# Altium footprint library WateringSystem_lib.PcbLib: 38 footprints (part 1 of 3)
Each footprint in its own frame and in the unit in brackets; x right, y up, seen from the top. Pads: shape width x height; smd on the part's side, far side on the other; paste and mask are expansions set on the pad; w line width, h text height; cw(c..) or ccw(c..) is an arc to the next point about the centre after c.
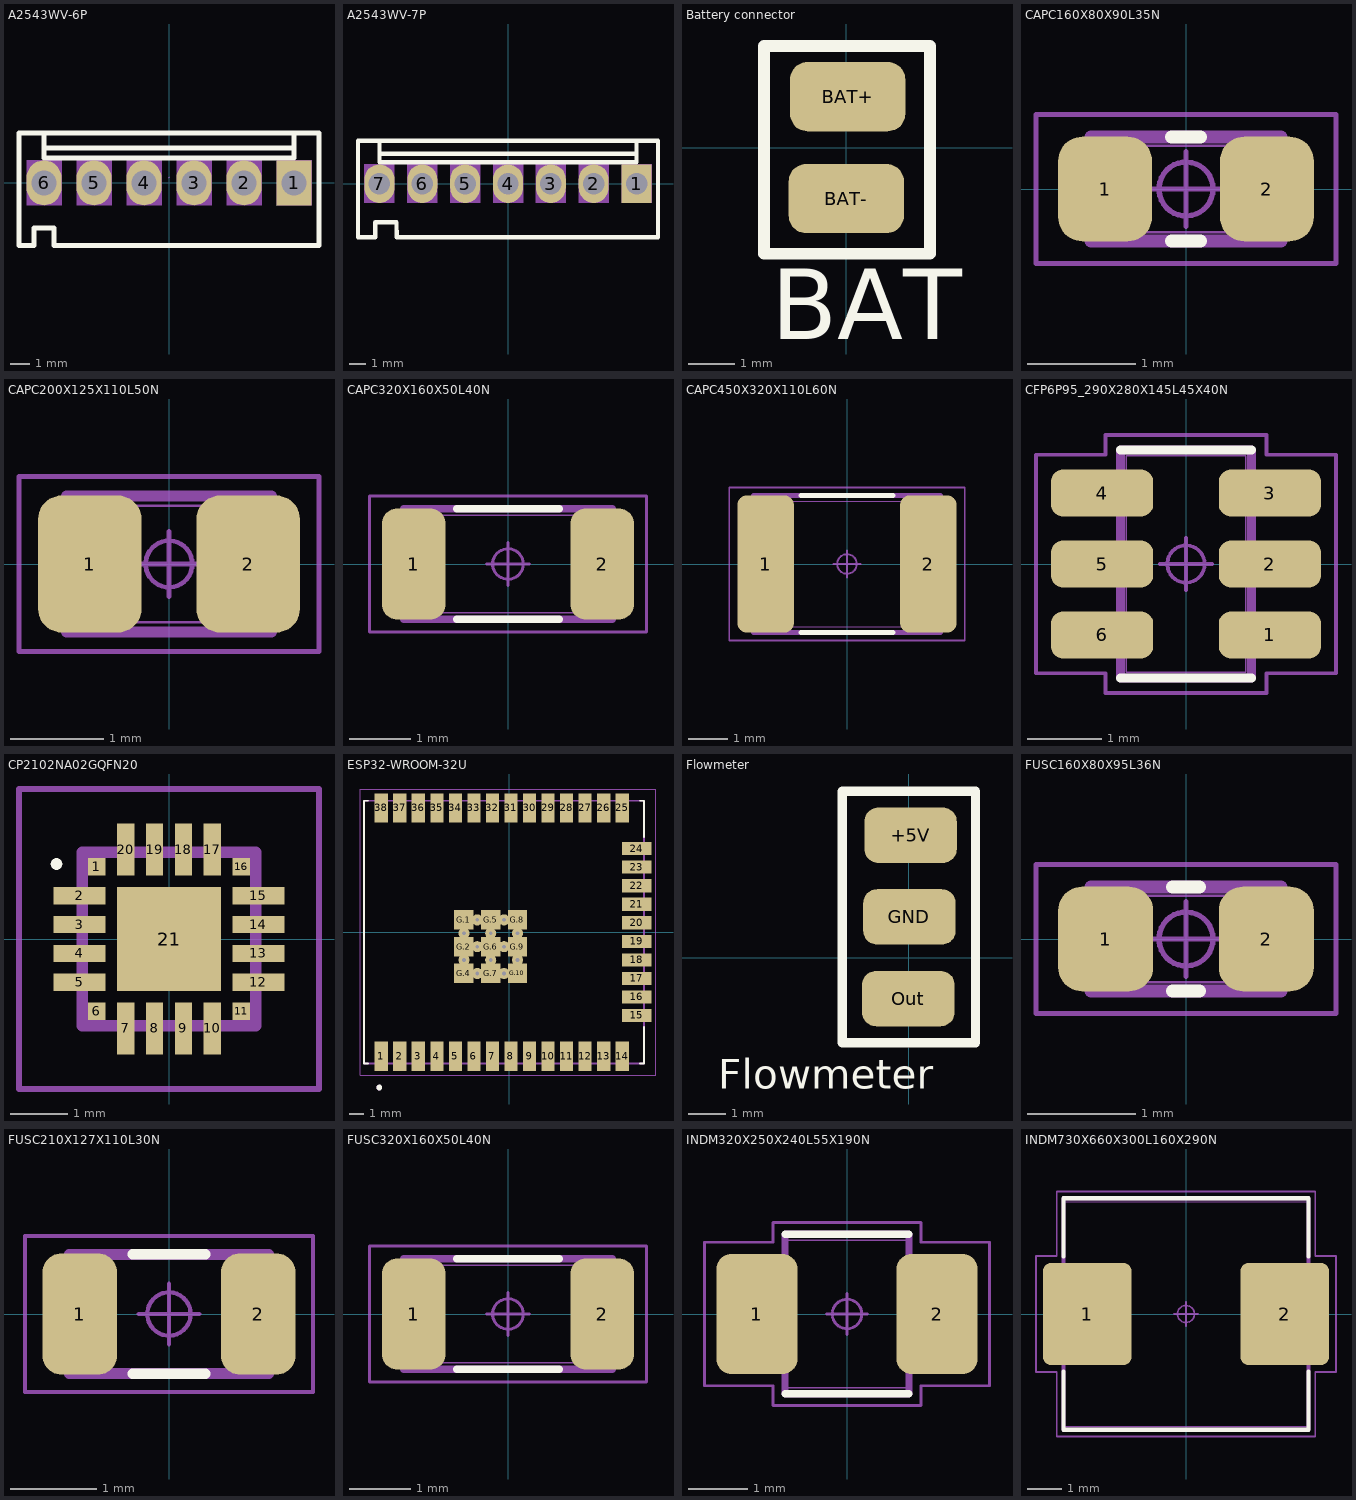
[diagram p0: the footprints below, top view; thin cyan lines are the x and y axes]

## A2543WV-6P [mil] "program port for ESP"
pads (6):
  rect 70x90 hole 50: 1(250,0)
  oval 70x90 hole 50: 2(150,0) 3(50,0) 4(-50,0) 5(-150,0) 6(-250,0)
Top Overlay:
  lines w10: -250,70 250,70 ; -250,100 -250,50 250,50 250,100 ; -300,-125 -270,-125 -270,-90 -230.1,-90 -230,-125 300,-125 300,100 -300,100 -300,-125
Mechanical 5:
  region: 215,45 285,45 285,-45 215,-45
  region: 115,45 185,45 185,-45 115,-45
  region: 15,45 85,45 85,-45 15,-45
  region: -85,45 -15,45 -15,-45 -85,-45
  region: -185,45 -115,45 -115,-45 -185,-45
  region: -285,45 -215,45 -215,-45 -285,-45
Mechanical 15:
  lines w0.1: -1,10.25 1,12.25
3D body "Header, Male, 2.54mm, 1x6.STEP": height 336.22, standoff -118.11, extent -300,-50 300,50

## A2543WV-7P [mil]
pads (7):
  rect 70x90 hole 50: 1(300,0)
  oval 70x90 hole 50: 2(200,0) 3(100,0) 4(0,0) 5(-100,0) 6(-200,0) 7(-300,0)
Top Overlay:
  lines w10: -300,70 300,70 ; -300,100 -300,50 300,50 300,100 ; -350,-125 -350,100 350,100 350,-125 -259.9,-125 -260,-90 -310,-90 -310,-125 -350,-125
Mechanical 5:
  region: -335,45 -265,45 -265,-45 -335,-45
  region: -235,45 -165,45 -165,-45 -235,-45
  region: -135,45 -65,45 -65,-45 -135,-45
  region: -35,45 35,45 35,-45 -35,-45
  region: 65,45 135,45 135,-45 65,-45
  region: 165,45 235,45 235,-45 165,-45
  region: 265,45 335,45 335,-45 265,-45
3D body "7x_Male_Pin_2.54_mm.STEP": height 326.23, standoff -110.78, extent -350,-44.49 350,50

## Battery connector [mm]
pads (2):
  rrect50% 2.5x1.5 smd: BAT+(0.03,1.107) BAT-(0,-1.1)
Top Overlay:
  lines w0.254: -1.785,-2.297 1.815,-2.297 1.815,2.204 -1.785,2.204 -1.785,-2.297
  text "BAT" at -1.631,-4.142 h1.52

## CAPC160X80X90L35N [mm] "Capacitor, Chip;  0603, 1.60 mm L X 0.80 mm W X 0.90 mm H body"
height 0.9
pads (2):
  rrect51% 0.87x0.97 smd: 1(-0.75,0) 2(0.75,0)
Top Overlay:
  lines w0.12: -0.135,-0.48 0.135,-0.48 ; -0.135,0.48 0.135,0.48
Mechanical 11:
  lines w0.12: -0.88,-0.48 0.88,-0.48 0.88,0.48 -0.88,0.48 -0.88,-0.48
Mechanical 12:
  lines w0.025: -0.8,-0.4 0.8,-0.4 ; -0.8,-0.4 -0.8,0.4 ; -0.8,-0.4 -0.8,0.4 ; -0.8,-0.4 -0.45,-0.4 -0.45,0.4 -0.8,0.4 ; -0.8,0.4 0.8,0.4 ; 0.8,-0.4 0.8,0.4 ; 0.8,-0.4 0.45,-0.4 0.45,0.4 0.8,0.4 ; 0.8,-0.4 0.8,0.4
Mechanical 15:
  circle w0.05: c0,0 r0.25
  lines w0.05: -0.345,0 0.345,0 ; 0,-0.345 0,0.345 ; -1.39,-0.69 1.39,-0.69 1.39,0.69 -1.39,0.69 -1.39,-0.69
3D body: height 0.25, standoff 0, extent 0,0 0.254,0.254
3D body "CAPC160X80X90L35.STEP": height 0.9, standoff 0, extent -0.8,-0.4 0.8,0.4

## CAPC200X125X110L50N [mm] "Capacitor, Chip; 0805; 2.00 mm L X 1.25 mm W X 1.10 mm H body"
height 1.1
pads (2):
  rrect45% 1.11x1.47 smd: 1(-0.85,0) 2(0.85,0)
Mechanical 11:
  lines w0.12: -1.1,-0.73 -1.1,0.73 1.1,0.73 1.1,-0.73 -1.1,-0.73
Mechanical 12:
  lines w0.025: -1,-0.625 -0.5,-0.625 -0.5,0.625 -1,0.625 ; -1,-0.625 -1,0.625 ; -1,-0.625 -1,0.625 ; -1,-0.625 1,-0.625 ; -1,0.625 1,0.625 ; 1,-0.625 1,0.625 ; 1,-0.625 0.5,-0.625 0.5,0.625 1,0.625 ; 1,-0.625 1,0.625
Mechanical 15:
  circle w0.05: c0,0 r0.25
  lines w0.05: -0.35,0 0.35,0 ; 0,-0.35 0,0.35 ; -1.61,-0.94 -1.61,0.94 1.61,0.94 1.61,-0.94 -1.61,-0.94
3D body: height 0.25, standoff 0, extent 0,0 0.254,0.254
3D body "CAPC200X125X110L50.STEP": height 1.1, standoff 0, extent -1,-0.625 1,0.625
3D body "CAPC200X125X110L50.STEP": height 1.1, standoff 0, extent -1,-0.625 1,0.625

## CAPC320X160X50L40N [mm] "Capacitor, Chip; 1206; 3.20 mm L X 1.60 mm W X 0.50 mm H body"
height 0.5
pads (2):
  rrect48% 1.04x1.82 smd: 1(-1.54,0) 2(1.54,0)
Top Overlay:
  lines w0.12: -0.84,-0.9 0.84,-0.9 ; -0.84,0.9 0.84,0.9
Mechanical 11:
  lines w0.12: -1.7,-0.9 -1.7,0.9 1.7,0.9 1.7,-0.9 -1.7,-0.9
Mechanical 12:
  lines w0.025: -1.6,-0.8 -1.2,-0.8 -1.2,0.8 -1.6,0.8 ; -1.6,-0.8 -1.6,0.8 ; -1.6,-0.8 -1.6,0.8 ; -1.6,-0.8 1.6,-0.8 ; -1.6,0.8 1.6,0.8 ; 1.6,-0.8 1.6,0.8 ; 1.6,-0.8 1.2,-0.8 1.2,0.8 1.6,0.8 ; 1.6,-0.8 1.6,0.8
Mechanical 15:
  circle w0.05: c0,0 r0.25
  lines w0.05: -0.35,0 0.35,0 ; 0,-0.35 0,0.35 ; -2.26,-1.11 -2.26,1.11 2.26,1.11 2.26,-1.11 -2.26,-1.11
3D body: height 0.25, standoff 0, extent 0,0 0.254,0.254
3D body "CAPC320X160X50L40.STEP": height 0.5, standoff 0, extent -1.6,-0.8 1.6,0.8

## CAPC450X320X110L60N [mm] "Capacitor, Chip; 4.50 mm L X 3.20 mm W X 1.10 mm H body"
height 1.1
pads (2):
  rrect34% 1.45x3.51 smd: 1(-2.08,0) 2(2.08,0)
Top Overlay:
  lines w0.12: -1.175,-1.75 1.175,-1.75 ; -1.175,1.75 1.175,1.75
Mechanical 11:
  lines w0.12: -2.4,-1.75 2.4,-1.75 2.4,1.75 -2.4,1.75 -2.4,-1.75
Mechanical 12:
  lines w0.025: -2.25,-1.6 2.25,-1.6 ; -2.25,-1.6 -2.25,1.6 ; -2.25,-1.6 -2.25,1.6 ; -2.25,-1.6 -1.65,-1.6 -1.65,1.6 -2.25,1.6 ; -2.25,1.6 2.25,1.6 ; 2.25,-1.6 2.25,1.6 ; 2.25,-1.6 1.65,-1.6 1.65,1.6 2.25,1.6 ; 2.25,-1.6 2.25,1.6
Mechanical 15:
  circle w0.05: c0,0 r0.25
  lines w0.05: -0.35,0 0.35,0 ; 0,-0.35 0,0.35 ; -3.01,-1.96 3.01,-1.96 3.01,1.96 -3.01,1.96 -3.01,-1.96
3D body: height 0.25, standoff 0, extent 0,0 0.254,0.254
3D body "CAPC450X320X110L60.STEP": height 1.1, standoff 0, extent -2.25,-1.6 2.25,1.6

## CFP6P95_290X280X145L45X40N [mm] "Ceramic Flat Pack (CFP), SOT23-6, 0.95 mm pitch; 6 pin, 2.90 mm L X 1.60 mm W X 1.45 mm H body"
height 1.45
pads (6):
  rrect51% 1.37x0.63 smd: 1(1.125,-0.95) 2(1.125,0) 3(1.125,0.95) 4(-1.125,0.95) 5(-1.125,0) 6(-1.125,-0.95)
Top Overlay:
  lines w0.12: -0.88,-1.53 0.88,-1.53 ; -0.88,1.53 0.88,1.53
Mechanical 11:
  lines w0.12: -0.88,-1.53 -0.88,1.53 0.88,1.53 0.88,-1.53 -0.88,-1.53
Mechanical 12:
  lines w0.025: -1.4,-1.15 -1.4,-0.75 -0.95,-0.75 -0.95,-1.15 -1.4,-1.15 ; -1.4,-0.2 -1.4,0.2 -0.95,0.2 -0.95,-0.2 -1.4,-0.2 ; -1.4,0.75 -1.4,1.15 -0.95,1.15 -0.95,0.75 -1.4,0.75 ; -0.8,-1.45 -0.8,1.45 0.8,1.45 0.8,-1.45 -0.8,-1.45 ; 0.95,-1.15 1.4,-1.15 1.4,-0.75 0.95,-0.75 0.95,-1.15 ; 0.95,-0.2 1.4,-0.2 1.4,0.2 0.95,0.2 0.95,-0.2 ; 0.95,0.75 1.4,0.75 1.4,1.15 0.95,1.15 0.95,0.75
Mechanical 15:
  circle w0.05: c0,0 r0.25
  lines w0.05: -0.35,0 0.35,0 ; 0,-0.35 0,0.35 ; -2.01,-1.465 -1.08,-1.465 -1.08,-1.73 1.08,-1.73 1.08,-1.465 2.01,-1.465 2.01,1.465 1.08,1.465 1.08,1.73 -1.08,1.73 -1.08,1.465 -2.01,1.465 -2.01,-1.465
3D body "sot-23-6.stp": height 1.1, standoff -0.01, extent -1.423,-1.46 1.422,1.461

## CP2102NA02GQFN20 [mm]
pads (21):
  rect 0.3x0.3 smd: 1(-1.25,1.25) 6(-1.25,-1.25) 11(1.25,-1.25) 16(1.25,1.25)
  rect 0.9x0.3 smd: 2(-1.55,0.75) 3(-1.55,0.25) 4(-1.55,-0.25) 5(-1.55,-0.75) 12(1.55,-0.75) 13(1.55,-0.25) 14(1.55,0.25) 15(1.55,0.75)
  rect 0.3x0.9 smd: 7(-0.75,-1.55) 8(-0.25,-1.55) 9(0.25,-1.55) 10(0.75,-1.55) 17(0.75,1.55) 18(0.25,1.55) 19(-0.25,1.55) 20(-0.75,1.55)
  rect 1.8x1.8 smd: 21(0,0)
Top Overlay:
  lines w0.1: -2,1.3 ccw(c-1.95,1.3) -1.9,1.3 ccw(c-1.95,1.3) -2,1.3
Mechanical 13:
  lines w0.2: -1.5,-1.5 -1.5,1.5 1.5,1.5 1.5,-1.5 -1.5,-1.5
Mechanical 15:
  lines w0.1: -2.6,-2.6 -2.6,2.6 2.6,2.6 2.6,-2.6 -2.6,-2.6
3D body "CP2102N-A02-GQFN20R.stp": height 0.75, standoff 0, extent -1.5,-1.5 1.5,1.5

## ESP32-WROOM-32U [mm]
pads (59):
  rect 0.9x2 smd: 1(-8.755,-8.5) 2(-7.485,-8.5) 3(-6.215,-8.5) 4(-4.945,-8.5) 5(-3.675,-8.5) 6(-2.405,-8.5) 7(-1.135,-8.5) 8(0.135,-8.5) 9(1.405,-8.5) 10(2.675,-8.5) 11(3.945,-8.5) 12(5.215,-8.5) 13(6.485,-8.5) 14(7.755,-8.5) 25(7.755,8.5) 26(6.485,8.5) 27(5.215,8.5) 28(3.945,8.5) 29(2.675,8.5) 30(1.405,8.5) 31(0.135,8.5) 32(-1.135,8.5) 33(-2.405,8.5) 34(-3.675,8.5) 35(-4.945,8.5) 36(-6.215,8.5) 37(-7.485,8.5) 38(-8.755,8.5)
  rect 2x0.9 smd: 15(8.755,-5.715) 16(8.755,-4.445) 17(8.755,-3.175) 18(8.755,-1.905) 19(8.755,-0.635) 20(8.755,0.635) 21(8.755,1.905) 22(8.755,3.175) 23(8.755,4.445) 24(8.755,5.715)
  rect 1.33x1.33 smd: G.1(-3.09,0.835) G.2(-3.09,-1) G.4(-3.09,-2.835) G.5(-1.255,0.835) G.6(-1.255,-1) G.7(-1.255,-2.835) G.8(0.58,0.835) G.9(0.58,-1) G.10(0.58,-2.835)
  round 0.762 hole 0.254: G.11(-3.09,-0.082) G.12(-3.09,-1.917) G.13(-2.172,0.835) G.14(-2.172,-1) G.15(-2.172,-2.835) G.16(-1.255,-0.082) G.17(-1.255,-1.917) G.18(-0.337,0.835) G.19(-0.337,-1) G.20(-0.337,-2.835) G.21(0.58,-0.082) G.22(0.58,-1.917)
Top Overlay:
  circle w0.2: c-8.885,-10.65 r0.1
  lines w0.127: -9.645,-9 -9.945,-9 -9.945,9 -9.645,9 ; 8.955,-9 9.255,-9 9.255,-6.49 ; 8.955,9 9.255,9 9.255,6.49
Mechanical 13:
  circle w0.2: c-8.885,-10.65 r0.1
  lines w0.127: -9.945,-9 9.255,-9 9.255,9 -9.945,9 -9.945,-9
Mechanical 15:
  lines w0.05: -10.195,-9.8 10.055,-9.8 10.055,9.8 -10.195,9.8 -10.195,-9.8
3D body "ESP32-WROOM-32U--3DModel-STEP-56544.STEP": height 3.3, standoff 0, extent -9.945,-9 9.255,9

## Flowmeter [mm]
pads (3):
  rrect50% 2.5x1.5 smd: +5V(0.045,3.311) GND(0.015,1.104) Out(-0.015,-1.104)
Top Overlay:
  lines w0.254: -1.8,-2.3 1.8,-2.3 1.8,4.5 -1.8,4.5 -1.8,-2.3
  text "Flowmeter" at -5.146,-3.546 h0.8

## FUSC160X80X95L36N [mm] "Fuse, Chip; 0603; 1.60 mm L X 0.80 mm W X 0.95 mm H body"
height 0.95
pads (2):
  rrect50% 0.88x0.97 smd: 1(-0.745,0) 2(0.745,0)
Top Overlay:
  lines w0.12: -0.125,-0.48 0.125,-0.48 ; -0.125,0.48 0.125,0.48
Mechanical 11:
  lines w0.12: -0.88,-0.48 0.88,-0.48 0.88,0.48 -0.88,0.48 -0.88,-0.48
Mechanical 12:
  lines w0.025: -0.8,-0.4 0.8,-0.4 ; -0.8,-0.4 -0.8,0.4 ; -0.8,-0.4 -0.8,0.4 ; -0.8,-0.4 -0.44,-0.4 -0.44,0.4 -0.8,0.4 ; -0.8,0.4 0.8,0.4 ; 0.8,-0.4 0.8,0.4 ; 0.8,-0.4 0.44,-0.4 0.44,0.4 0.8,0.4 ; 0.8,-0.4 0.8,0.4
Mechanical 15:
  circle w0.05: c0,0 r0.25
  lines w0.05: -0.345,0 0.345,0 ; 0,-0.345 0,0.345 ; -1.39,-0.69 1.39,-0.69 1.39,0.69 -1.39,0.69 -1.39,-0.69
3D body "FUSC160X80X95L36.STEP": height 0.95, standoff 0, extent -0.8,-0.4 0.8,0.4

## FUSC210X127X110L30N [mm] "Fuse, Chip; 0805; 2.10 mm L X 1.27 mm W X 1.10 mm H body"
height 1.1
pads (2):
  rrect51% 0.86x1.4 smd: 1(-1.03,0) 2(1.03,0)
Top Overlay:
  lines w0.12: -0.42,-0.69 0.42,-0.69 ; -0.42,0.69 0.42,0.69
Mechanical 11:
  lines w0.12: -1.15,-0.69 1.15,-0.69 1.15,0.69 -1.15,0.69 -1.15,-0.69
Mechanical 12:
  lines w0.025: -1.05,-0.635 1.05,-0.635 ; -1.05,-0.635 -1.05,0.635 ; -1.05,-0.635 -1.05,0.635 ; -1.05,-0.635 -0.75,-0.635 -0.75,0.635 -1.05,0.635 ; -1.05,0.635 1.05,0.635 ; 1.05,-0.635 1.05,0.635 ; 1.05,-0.635 0.75,-0.635 0.75,0.635 1.05,0.635 ; 1.05,-0.635 1.05,0.635
Mechanical 15:
  circle w0.05: c0,0 r0.25
  lines w0.05: -0.35,0 0.35,0 ; 0,-0.35 0,0.35 ; -1.66,-0.9 1.66,-0.9 1.66,0.9 -1.66,0.9 -1.66,-0.9

## FUSC320X160X50L40N [mm] "Fuse, Chip; 1206;  3.20 mm L X 1.60 mm W X 0.50 mm H body"
height 0.5
pads (2):
  rrect48% 1.04x1.82 smd: 1(-1.54,0) 2(1.54,0)
Top Overlay:
  lines w0.12: -0.84,-0.9 0.84,-0.9 ; -0.84,0.9 0.84,0.9
Mechanical 11:
  lines w0.12: -1.7,-0.9 1.7,-0.9 1.7,0.9 -1.7,0.9 -1.7,-0.9
Mechanical 12:
  lines w0.025: -1.6,-0.8 1.6,-0.8 ; -1.6,-0.8 -1.6,0.8 ; -1.6,-0.8 -1.6,0.8 ; -1.6,-0.8 -1.2,-0.8 -1.2,0.8 -1.6,0.8 ; -1.6,0.8 1.6,0.8 ; 1.6,-0.8 1.6,0.8 ; 1.6,-0.8 1.2,-0.8 1.2,0.8 1.6,0.8 ; 1.6,-0.8 1.6,0.8
Mechanical 15:
  circle w0.05: c0,0 r0.25
  lines w0.05: -0.35,0 0.35,0 ; 0,-0.35 0,0.35 ; -2.26,-1.11 2.26,-1.11 2.26,1.11 -2.26,1.11 -2.26,-1.11
3D body: height 0.25, standoff 0, extent 0,0 0.254,0.254
3D body "FUSC320X160X50L40.STEP": height 0.5, standoff 0, extent -1.6,-0.8 1.6,0.8

## INDM320X250X240L55X190N [mm] "Inductor, Molded Body; 2.10 mm L X 2.50 mm W X 2.40 mm H body"
height 2.4
pads (2):
  rrect36% 1.37x2.03 smd: 1(-1.525,0) 2(1.525,0)
Top Overlay:
  lines w0.12: -1.05,-1.35 1.05,-1.35 ; -1.05,1.35 1.05,1.35
Mechanical 11:
  lines w0.12: -1.05,-1.35 1.05,-1.35 1.05,1.35 -1.05,1.35 -1.05,-1.35
Mechanical 12:
  lines w0.025: -1.6,-0.95 -1.6,0.95 -1.05,0.95 -1.05,-0.95 -1.6,-0.95 ; -1.05,-1.25 1.05,-1.25 1.05,1.25 -1.05,1.25 -1.05,-1.25 ; 1.05,-0.95 1.6,-0.95 1.6,0.95 1.05,0.95 1.05,-0.95
Mechanical 15:
  circle w0.05: c0,0 r0.25
  lines w0.05: -0.35,0 0.35,0 ; 0,-0.35 0,0.35 ; -2.41,-1.215 -1.25,-1.215 -1.25,-1.55 1.25,-1.55 1.25,-1.215 2.41,-1.215 2.41,1.215 1.25,1.215 1.25,1.55 -1.25,1.55 -1.25,1.215 -2.41,1.215 -2.41,-1.215
3D body: height 0.25, standoff 0, extent 0,0 0.254,0.254
3D body "INDM320X250X240L55X190.STEP": height 2.4, standoff 0, extent -1.6,-1.25 1.6,1.25

## INDM730X660X300L160X290N [mm] "Inductor, Molded Body; 7.20 mm L X 6.60 mm W X 3.00 mm H body"
height 3
pads (2):
  rrect19% 2.61x3.01 smd: 1(-2.9,0) 2(2.9,0)
Top Overlay:
  lines w0.12: -3.6,-1.685 -3.6,-3.4 3.6,-3.4 3.6,-1.685 ; -3.6,1.685 -3.6,3.4 3.6,3.4 3.6,1.685
Mechanical 11:
  lines w0.12: -3.6,-3.4 3.6,-3.4 3.6,3.4 -3.6,3.4 -3.6,-3.4
Mechanical 12:
  lines w0.025: -3.65,-1.45 -3.65,1.45 -2.05,1.45 -2.05,-1.45 -3.65,-1.45 ; -3.6,-3.3 3.6,-3.3 3.6,3.3 -3.6,3.3 -3.6,-3.3 ; 2.05,-1.45 3.65,-1.45 3.65,1.45 2.05,1.45 2.05,-1.45
Mechanical 15:
  circle w0.05: c0,0 r0.25
  lines w0.05: -0.35,0 0.35,0 ; 0,-0.35 0,0.35 ; -4.405,-1.705 -3.8,-1.705 -3.8,-3.6 3.8,-3.6 3.8,-1.705 4.405,-1.705 4.405,1.705 3.8,1.705 3.8,3.6 -3.8,3.6 -3.8,1.705 -4.405,1.705 -4.405,-1.705
3D body: height 0.25, standoff 0, extent 0,0 0.254,0.254
3D body "INDM730X660X300L160X290.STEP": height 3, standoff 0, extent -3.65,-3.3 3.65,3.3